# Altium schematic symbol library BAT54S.SchLib: 1 symbol
Pins are listed as number, name and electrical type; pins without a type are passive.

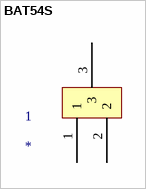
[diagram p0: symbol BAT54S]

## BAT54S
designator 1
pins: 1, 2, 3